# EAGLE library part CONNECTOR_6 (library TD-MySensors)
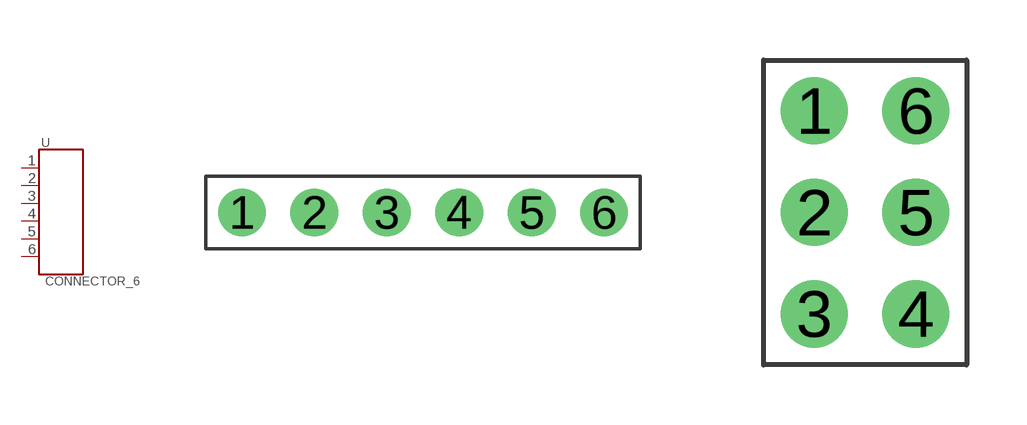
[diagram p9: symbol with the pads of DUPONT_6; footprints DUPONT_6, DUPONT_2_3]

Designator prefix -

## CONNECTOR_6DUPONT  [DUPONT_6]
1  1
2  2
3  3
4  4
5  5
6  6

## CONNECTOR_6DUP_2_3  [DUPONT_2_3]
Pads as for DUPONT_6

## Footprint DUPONT_6 (pad centres in mm)
drill 1.016 pad 1.676: 1 -6.35,0; 2 -3.81,0; 3 -1.27,0; 4 1.27,0; 5 3.81,0; 6 6.35,0

## Footprint DUPONT_2_3 (pad centres in mm)
drill 1.016 pad 1.676: 1 -1.27,2.54; 2 -1.27,0; 3 -1.27,-2.54; 4 1.27,-2.54; 5 1.27,0; 6 1.27,2.54